# Altium footprint library composants passifs.pcblib: 53 footprints (part 1 of 4)
Each footprint in its own frame and in the unit in brackets; x right, y up, seen from the top. Pads: shape width x height; smd on the part's side, far side on the other; paste and mask are expansions set on the pad; w line width, h text height; cw(c..) or ccw(c..) is an arc to the next point about the centre after c.
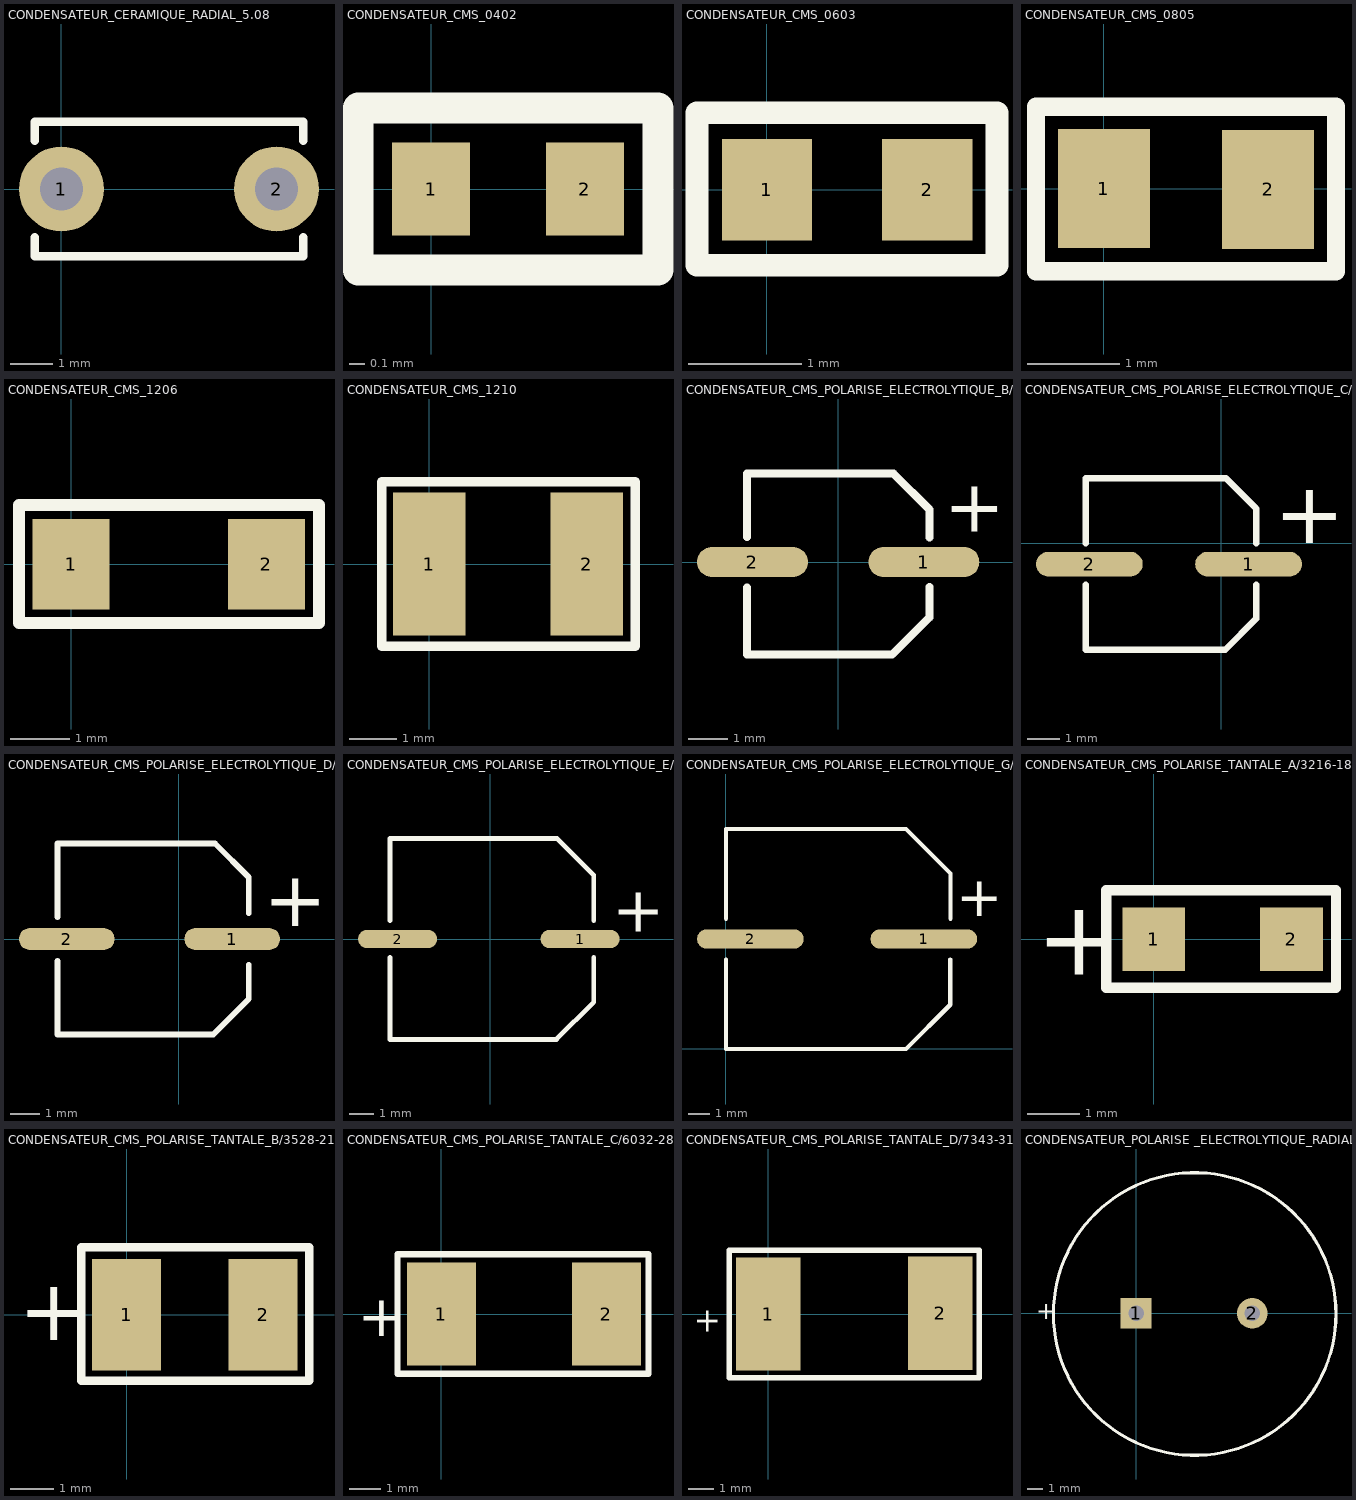
[diagram p0: the footprints below, top view; thin cyan lines are the x and y axes]

## CONDENSATEUR_CERAMIQUE_RADIAL_5.08 [mil] "CONDENSATEUR TRAVERSANT CERAMIQUE RADIAL ; DIMENSIONS : 3.17mm x 5.08mm"
height 236.22
pads (2):
  round 79 hole 40: 1(0,0) 2(200,0)
Top Overlay:
  lines w7.87: -25,-45 -25,-62.5 225,-62.5 225,-45 ; -25,45 -25,62.5 225,62.5 225,45
3D body: height 148.43, standoff -116.85, extent -10.79,-43.31 209.21,41.69

## CONDENSATEUR_CMS_0402 [mm] "CONDENSATEUR CMS  0402 ; DIMENSIONS : 1mm x 0.5mm"
height 0.25
pads (2):
  rect 0.5x0.6 smd: 1(0,0) 2(0.99,0)
Top Overlay:
  lines w0.2: -0.47,-0.52 1.46,-0.52 1.46,0.52 -0.47,0.52 -0.47,-0.52
3D body: height 0.5, standoff 0, extent 0,-0.25 1,0.25

## CONDENSATEUR_CMS_0603 [mm] "CONDENSATEUR CMS 0603 ; DIMENSIONS : 1.6mm x 0.86mm"
height 0.35
pads (2):
  rect 0.8x0.9 smd: 1(0,0) 2(1.422,0)
Top Overlay:
  lines w0.2: -0.62,-0.67 2.04,-0.67 2.04,0.68 -0.62,0.68 -0.62,-0.67
3D body: height 0.85, standoff -0.01, extent -0.1,-0.46 1.5,0.4

## CONDENSATEUR_CMS_0805 [mm] "CONDENSATEUR CMS 0805 ; DIMENSIONS : 2mm x 1.25mm"
height 0.8
pads (2):
  rect 1x1.3 smd: 1(0,0) 2(1.79,-0.01)
Top Overlay:
  lines w0.2: -0.74,-0.9 2.53,-0.9 2.53,0.89 -0.74,0.89 -0.74,-0.9
3D body: height 0.73, standoff -0.03, extent -0.09,-0.67 1.91,0.64

## CONDENSATEUR_CMS_1206 [mil] "CONDENSATEUR CMS 1206 ; DIMENSIONS : 3.2mm x 1.6mm"
height 39.37
pads (2):
  rect 51.18x60 smd: 1(0,0) 2(130,0)
Top Overlay:
  lines w7.87: -34.65,-38.98 164.96,-38.98 164.96,39.37 -34.65,39.37 -34.65,-38.98
3D body: height 64.17, standoff -1.18, extent 0,-29.92 125.98,31.5

## CONDENSATEUR_CMS_1210 [mm] "CONDENSATEUR CMS 1210 ; DIMENSIONS : 3.2mm x 2.5mm"
height 1
pads (2):
  rect 1.524x3 smd: 1(0,0) 2(3.3,0)
Top Overlay:
  lines w0.2: -1,-1.73 4.32,-1.73 4.32,1.73 -1,1.73 -1,-1.73
3D body: height 2.5, standoff 0, extent -0.076,-1.27 3.124,1.23

## CONDENSATEUR_CMS_POLARISE_ELECTROLYTIQUE_B/4343 [mil] "CONDENSATEUR CMS POLARISE ELECTROLYTIQUE B : 4.3mm x 4.3mm ; DIAMETRE : 4mm ; ESPACEMENT BROCHES : 4.3mm"
height 204.72
pads (2):
  oval 110x30 smd: 1(85,0) 2(-85,0)
Top Overlay:
  lines w7.87: -90.55,-25.2 -90.55,-91.73 53.54,-91.73 90.35,-54.92 ; -90.55,24.8 -90.55,87.8 54.72,87.8 90.55,51.97 90.55,24.41 ; 90.55,-54.72 90.55,-24.72
  text "+" at 105,30 h52.5
3D body: height 212.8, standoff -0.2, extent -90.55,-86.61 90.55,82.68

## CONDENSATEUR_CMS_POLARISE_ELECTROLYTIQUE_C/5353 [mil] "CONDENSATEUR CMS POLARISE ELECTROLYTIQUE BOITIER C : 5.3mm x 5.3mm ; DIAMETRE : 4mm ; ESPACEMENT BROCHES : 4.9mm"
height 204.72
pads (2):
  oval 130x30 smd: 1(33.5,-25.6) 2(-160.5,-25.6)
Top Overlay:
  lines w7.87: -165,-51 -165,-130 5,-130 43,-92 43,-51 ; -165,0 -165,79 6,79 43,42 43,0
  text "+" at 65,0 h75
3D body: height 212.8, standoff -0.2, extent -175.2,-129.92 57.09,78.74

## CONDENSATEUR_CMS_POLARISE_ELECTROLYTIQUE_D/6666 [mil] "CONDENSATEUR CMS POLARISE ELECTROLYTIQUE BOITIER D : 6.6mm x 6.6mm ; DIAMTRE : 6.3mm ; ESPACEMENT BROCHES : 5.7mm"
height 204.72
pads (2):
  oval 130x30 smd: 1(72.5,0) 2(-152.5,0)
Top Overlay:
  lines w7.87: -165,-30 -165,-130 46.77,-130 95,-81.77 95,-35 ; -165,30 -165,130 49.13,130 95,84.13 95,35
  text "+" at 115.55,17.13 h75
3D body: height 212.8, standoff -0.2, extent -173.23,-129.92 102.36,129.92

## CONDENSATEUR_CMS_POLARISE_ELECTROLYTIQUE_E/8383 [mil] "CONDENSATEUR CMS POLARISE ELECTROLYTIQUE BOITIER E : 8.3mm x 8.3mm ; DIAMETRE : 8mm ; ESPACEMENT BROCHES : 7.62mm"
height 413.39
pads (2):
  oval 130x30 smd: 1(147.5,0) 2(-152.5,0)
Top Overlay:
  lines w7.87: -165,-30 -165,-165 108.62,-165 170,-103.62 170,-30 ; -165,30 -165,165 110,165 170,105 170,30
  text "+" at 200.55,12.13 h75
3D body: height 244.29, standoff -0.2, extent -173.23,-165.35 181.1,161.42

## CONDENSATEUR_CMS_POLARISE_ELECTROLYTIQUE_G/103103 [mm] "CONDENSATEUR CMS POLARISE ELECTROLYTIQUE BOITIER G : 10.3mm x 10.3mm ; DIAMETRE : 8mm ; ESPACEMENT BROCHES : 7.62mm"
height 12.5
pads (2):
  oval 5x0.9 smd: 1(9.271,5.15) 2(1.143,5.15)
Top Overlay:
  lines w0.2: 0,4.191 0,0 8.44,0 10.51,2.07 10.51,4.191 ; 0,6.096 0,10.3 8.44,10.3 10.518,8.222 10.525,6.097
  text "+" at 10.795,6.223 h1.91
3D body: height 10.21, standoff -0.01, extent -0.6,0 11,10.3

## CONDENSATEUR_CMS_POLARISE_TANTALE_A/3216-18 [mm] "CONDENSATEUR CMS POLARISE TANTALE BOITIER A ; DIMENSIONS : 3.2mm x 1.6mm"
height 1.6
pads (2):
  rect 1.2x1.22 smd: 1(0,0) 2(2.63,0)
Top Overlay:
  lines w0.2: -0.91,-0.93 -0.91,0.938 3.48,0.938 3.48,-0.93 -0.91,-0.93
  text "+" at -2.25,-0.68 h1.43
3D body: height 1.61, standoff 0, extent -0.275,-0.8 2.915,0.8

## CONDENSATEUR_CMS_POLARISE_TANTALE_B/3528-21 [mm] "CONDENSATEUR CMS POLARISE TANTALE BOITIER B ; DIMENSIONS : 3.5mm x 2.8mm"
height 1.9
pads (2):
  rect 1.6x2.6 smd: 1(0,0) 2(3.175,0)
Top Overlay:
  lines w0.2: -1.053,-1.54 4.247,-1.54 4.247,1.57 -1.053,1.57 -1.053,-1.54
  text "+" at -2.503,-0.6 h1.43
3D body: height 1.91, standoff 0, extent -0.159,-1.39 3.333,1.41

## CONDENSATEUR_CMS_POLARISE_TANTALE_C/6032-28 [mm] "CONDENSATEUR CMS POLARISE TANTALE BOITIER C ; DIMENSIONS : 6mm x 3.2mm"
height 2.6
pads (2):
  rect 2.2x3.3 smd: 1(0,0) 2(5.27,0)
Top Overlay:
  lines w0.2: 6.62,-1.91 -1.4,-1.91 -1.4,1.91 6.62,1.91 6.62,-1.88
  text "+" at -2.661,-0.708 h1.33
3D body: height 2.51, standoff 0, extent -0.397,-1.6 5.597,1.6

## CONDENSATEUR_CMS_POLARISE_TANTALE_D/7343-31 [mm] "CONDENSATEUR CMS POLARISE TANTALE BOITIER D ; DIMENSIONS : 7.3mm x 4.3mm"
height 2.9
pads (2):
  rect 2.5x4.4 smd: 1(0,0) 2(6.66,0.02)
Top Overlay:
  lines w0.2: -1.52,-2.47 8.17,-2.47 8.17,2.47 -1.52,2.47 -1.52,-2.46
  text "+" at -2.77,0.27 h0.95
3D body: height 2.81, standoff 0, extent -0.317,-2.14 6.977,2.16

## CONDENSATEUR_POLARISE _ELECTROLYTIQUE_RADIAL_7.62/18 [mil] "CONDENSATEUR POLARISE ELECTROLYTIQUE RADIAL ; DIAMETRE : 17.78mm ; ESPACEMENT BROCHES : 7.62mm"
height 1240.16
pads (2):
  rect 79x79 / inner round 79 / far side round 79 hole 40: 1(0,0)
  round 79 hole 40: 2(300,0)
Top Overlay:
  circle w7.87: c151.34,-1.57 r364.81
  text "+" at -258.27,-15.75 h45
3D body: height 590.55, standoff -98.43, extent -200.79,-354.33 507.87,354.33